# EAGLE library part LCMXO2-CN4 (library PartsForProto)
LCMX02変換基板用I/Fピン-4
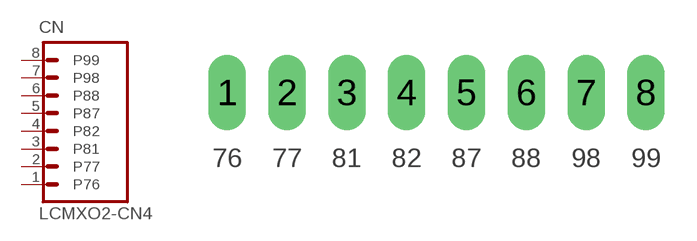
[diagram p9: symbol with the pads of LCMXO2-CN-4; footprint LCMXO2-CN-4]

Designator prefix CN

## LCMXO2-CN4  [LCMXO2-CN-4]
1  P76
2  P77
3  P81
4  P82
5  P87
6  P88
7  P98
8  P99

## Footprint LCMXO2-CN-4 (pad centres in mm)
PIN HEADER
drill 1 pad 1.6 long: 1 0,0; 2 2.54,0; 3 5.08,0; 4 7.62,0; 5 10.16,0; 6 12.7,0; 7 15.24,0; 8 17.78,0